# Altium schematic symbol library TC264.SchLib: 64 symbols (part 2 of 2)
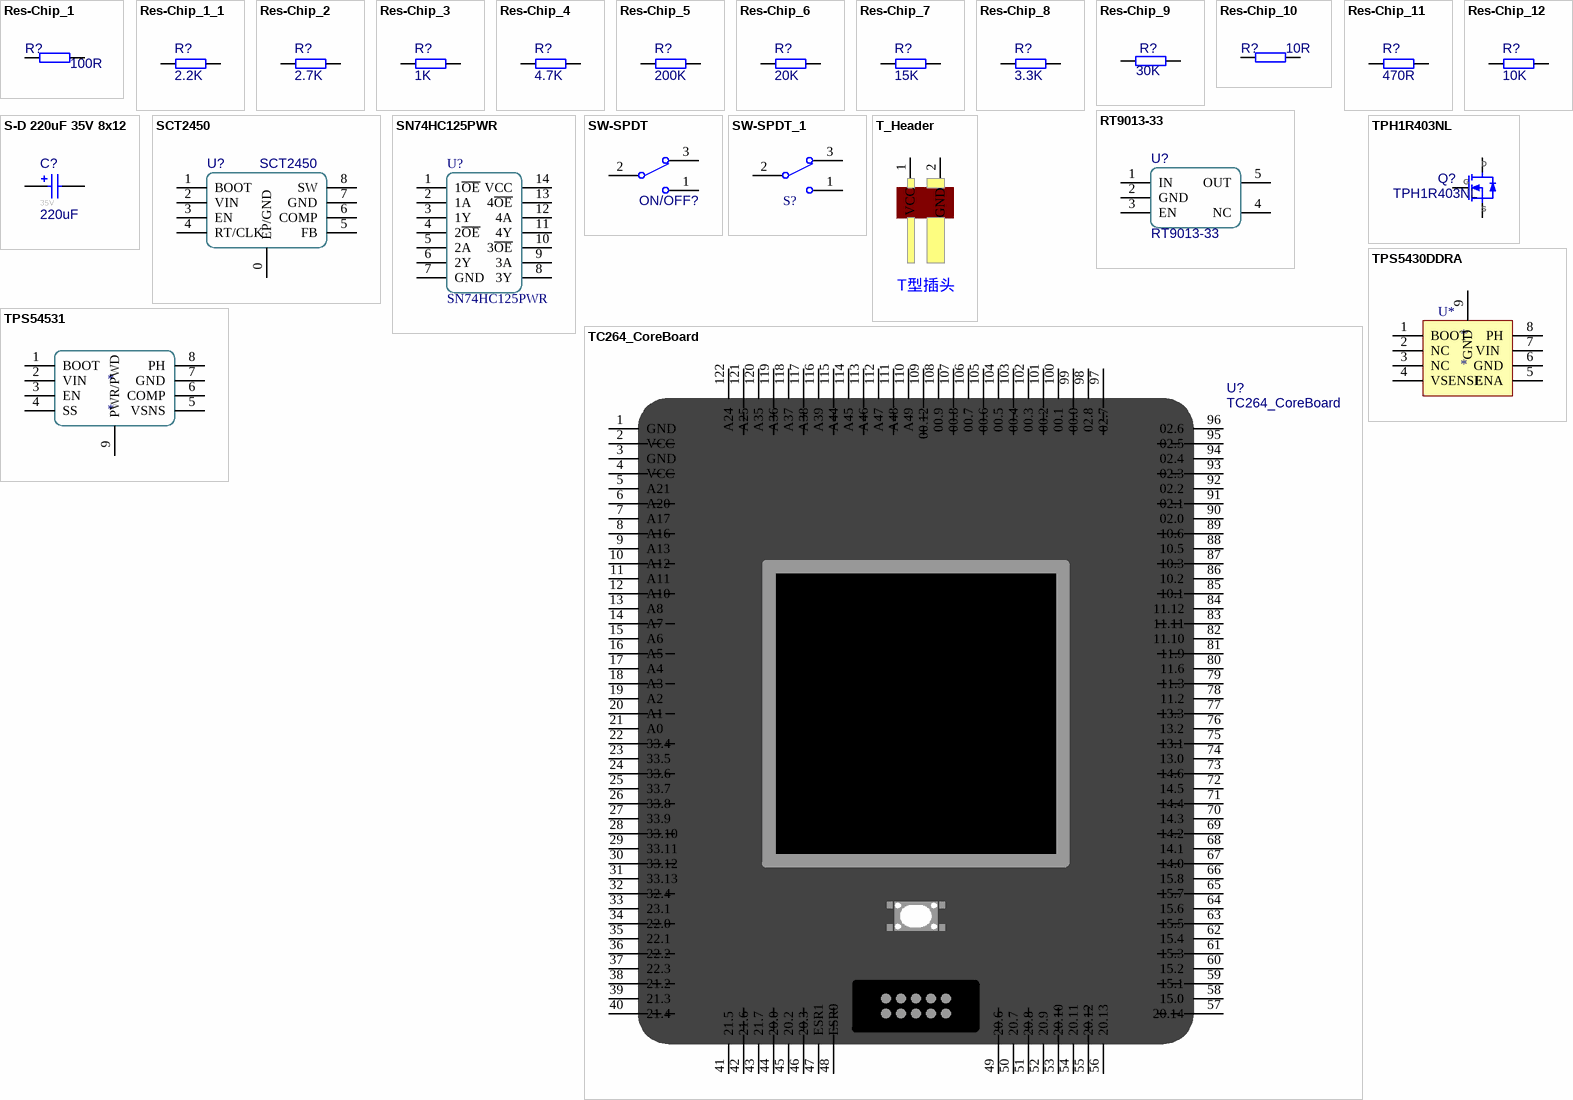
[diagram p2: symbols Res-Chip_1 to TPS54531]

## Res-Chip_9
designator R?, comment value 30K  (hidden comment: 30K ±1%)
贴片电阻; Published: 8-Jun-2000; Revision: July-2002: Re-released for DXP Platform.; Tolerance: ±1%
footprint RESC3225[1210]S (Silkscreen Outside, Chip Resistor, 2-Leads, Body 3.20x2.49mm, IPC Medium Density)
footprint RESC5025[2010]S (Silkscreen Outside, Chip Resistor, 2-Leads, Body 5.00x2.50mm, IPC Medium Density)
footprint RESC6332[2512]S (2512贴片电阻 有丝印 2脚 6.30x3.20mm IPC中密度)
footprint RESC5025[2010] (Chip Resistor, 2-Leads, Body 5.00x2.50mm, IPC Medium Density)
footprint RESC6332[2512] (2512贴片电阻 无丝印 2脚 6.30x3.20mm IPC中密度)
footprint RESC3225[1210] (Chip Resistor, 2-Leads, Body 3.20x2.49mm, IPC Medium Density)
footprint RESC3216[1206] (1206贴片电阻 无丝印 2脚 3.20x1.60mm IPC高密度)
footprint RESC2012[0805] (0805贴片电阻 无丝印 2脚 2.00x1.20mm IPC高密度)
footprint RESC1608[0603]-M (0603贴片电阻 无丝印 2脚 1.60x0.80mm IPC低密度)
footprint RESC1608[0603]-L (0603贴片电阻 无丝印 2脚 1.60x0.80mm IPC高密度)
footprint RESC1608[0603]-N (0603贴片电阻 无丝印 2脚 1.60x0.80mm IPC中密度)
footprint RESC1608[0603]S-L (0603贴片电阻 有丝印 2脚 1.60x0.80mm IPC高密度)
footprint RESC1608[0603]S-M (0603贴片电阻 有丝印 2脚 1.60x0.80mm IPC低密度)
footprint RESC1608[0603]S-N (0603贴片电阻 有丝印 2脚 1.60x0.80mm IPC中密度)
footprint RESC1005[0402]-L (0402贴片电阻 无丝印 2脚 1.00x0.50mm IPC高密度)
footprint RESC1005[0402]-N (0402贴片电阻 无丝印 2脚 1.00x0.50mm IPC中密度)
footprint RESC1005[0402]-M (0402贴片电阻 无丝印 2脚 1.00x0.50mm IPC低密度)
footprint RESC1005[0402]S-L (0402贴片电阻 有丝印 2脚 1.00x0.50mm IPC高密度)
footprint RESC1005[0402]S-M (0402贴片电阻 有丝印 2脚 1.00x0.50mm IPC低密度)
footprint RESC1005[0402]S-N (0402贴片电阻 有丝印 2脚 1.00x0.50mm IPC中密度)
footprint RESC2012[0805]S-L (0805贴片电阻 有丝印 2脚 2.00x1.20mm IPC高密度)
footprint RESC2012[0805]S-M (0805贴片电阻 有丝印 2脚 2.00x1.20mm IPC低密度)
footprint RESC2012[0805]S-N (0805贴片电阻 有丝印 2脚 2.00x1.20mm IPC中密度)
footprint RESC3216[1206]S-L (1206贴片电阻 有丝印 2脚 3.20x1.60mm IPC高密度)
footprint RESC3216[1206]S-M (1206贴片电阻 有丝印 2脚 3.20x1.60mm IPC低密度)
footprint RESC3216[1206]S-N (1206贴片电阻 有丝印 2脚 3.20x1.60mm IPC中密度)
footprint RESC0603[0201]-L (0201贴片电阻 无丝印 2脚 0.60x0.30mm IPC高密度)
footprint RESC0603[0201]-M (0201贴片电阻 无丝印 2脚 0.60x0.30mm IPC低密度)
footprint RESC0603[0201]-N (0201贴片电阻 无丝印 2脚 0.60x0.30mm IPC中密度)
footprint RESC0603[0201]S-L (0201贴片电阻 有丝印 2脚 0.60x0.30mm IPC高密度)
footprint RESC0603[0201]S-M (0201贴片电阻 有丝印 2脚 0.60x0.30mm IPC低密度)
footprint RESC0603[0201]S-N (0201贴片电阻 有丝印 2脚 0.60x0.30mm IPC中密度)
pins: 1, 2
1 alternate drawing of the same symbol

## Res-Chip_10
designator R?, comment value 10R  (hidden comment: 10R ±1%)
贴片电阻; Published: 8-Jun-2000; Revision: July-2002: Re-released for DXP Platform.; Tolerance: ±1%
footprint RESC3225[1210]S (Silkscreen Outside, Chip Resistor, 2-Leads, Body 3.20x2.49mm, IPC Medium Density)
footprint RESC5025[2010]S (Silkscreen Outside, Chip Resistor, 2-Leads, Body 5.00x2.50mm, IPC Medium Density)
footprint RESC6332[2512]S (2512贴片电阻 有丝印 2脚 6.30x3.20mm IPC中密度)
footprint RESC5025[2010] (Chip Resistor, 2-Leads, Body 5.00x2.50mm, IPC Medium Density)
footprint RESC6332[2512] (2512贴片电阻 无丝印 2脚 6.30x3.20mm IPC中密度)
footprint RESC3225[1210] (Chip Resistor, 2-Leads, Body 3.20x2.49mm, IPC Medium Density)
footprint RESC3216[1206] (1206贴片电阻 无丝印 2脚 3.20x1.60mm IPC高密度)
footprint RESC2012[0805] (0805贴片电阻 无丝印 2脚 2.00x1.20mm IPC高密度)
footprint RESC1608[0603]-M (0603贴片电阻 无丝印 2脚 1.60x0.80mm IPC低密度)
footprint RESC1608[0603]-L (0603贴片电阻 无丝印 2脚 1.60x0.80mm IPC高密度)
footprint RESC1608[0603]-N (0603贴片电阻 无丝印 2脚 1.60x0.80mm IPC中密度)
footprint RESC1608[0603]S-L (0603贴片电阻 有丝印 2脚 1.60x0.80mm IPC高密度)
footprint RESC1608[0603]S-M (0603贴片电阻 有丝印 2脚 1.60x0.80mm IPC低密度)
footprint RESC1608[0603]S-N (0603贴片电阻 有丝印 2脚 1.60x0.80mm IPC中密度)
footprint RESC1005[0402]-L (0402贴片电阻 无丝印 2脚 1.00x0.50mm IPC高密度)
footprint RESC1005[0402]-N (0402贴片电阻 无丝印 2脚 1.00x0.50mm IPC中密度)
footprint RESC1005[0402]-M (0402贴片电阻 无丝印 2脚 1.00x0.50mm IPC低密度)
footprint RESC1005[0402]S-L (0402贴片电阻 有丝印 2脚 1.00x0.50mm IPC高密度)
footprint RESC1005[0402]S-M (0402贴片电阻 有丝印 2脚 1.00x0.50mm IPC低密度)
footprint RESC1005[0402]S-N (0402贴片电阻 有丝印 2脚 1.00x0.50mm IPC中密度)
footprint RESC2012[0805]S-L (0805贴片电阻 有丝印 2脚 2.00x1.20mm IPC高密度)
footprint RESC2012[0805]S-M (0805贴片电阻 有丝印 2脚 2.00x1.20mm IPC低密度)
footprint RESC2012[0805]S-N (0805贴片电阻 有丝印 2脚 2.00x1.20mm IPC中密度)
footprint RESC3216[1206]S-L (1206贴片电阻 有丝印 2脚 3.20x1.60mm IPC高密度)
footprint RESC3216[1206]S-M (1206贴片电阻 有丝印 2脚 3.20x1.60mm IPC低密度)
footprint RESC3216[1206]S-N (1206贴片电阻 有丝印 2脚 3.20x1.60mm IPC中密度)
footprint RESC0603[0201]-L (0201贴片电阻 无丝印 2脚 0.60x0.30mm IPC高密度)
footprint RESC0603[0201]-M (0201贴片电阻 无丝印 2脚 0.60x0.30mm IPC低密度)
footprint RESC0603[0201]-N (0201贴片电阻 无丝印 2脚 0.60x0.30mm IPC中密度)
footprint RESC0603[0201]S-L (0201贴片电阻 有丝印 2脚 0.60x0.30mm IPC高密度)
footprint RESC0603[0201]S-M (0201贴片电阻 有丝印 2脚 0.60x0.30mm IPC低密度)
footprint RESC0603[0201]S-N (0201贴片电阻 有丝印 2脚 0.60x0.30mm IPC中密度)
pins: 1, 2
1 alternate drawing of the same symbol

## Res-Chip_11
designator R?, comment value 470R  (hidden comment: 470R ±1%)
贴片电阻; Published: 8-Jun-2000; Revision: July-2002: Re-released for DXP Platform.; Tolerance: ±1%
footprint RESC3225[1210]S (Silkscreen Outside, Chip Resistor, 2-Leads, Body 3.20x2.49mm, IPC Medium Density)
footprint RESC5025[2010]S (Silkscreen Outside, Chip Resistor, 2-Leads, Body 5.00x2.50mm, IPC Medium Density)
footprint RESC6332[2512]S (2512贴片电阻 有丝印 2脚 6.30x3.20mm IPC中密度)
footprint RESC5025[2010] (Chip Resistor, 2-Leads, Body 5.00x2.50mm, IPC Medium Density)
footprint RESC6332[2512] (2512贴片电阻 无丝印 2脚 6.30x3.20mm IPC中密度)
footprint RESC3225[1210] (Chip Resistor, 2-Leads, Body 3.20x2.49mm, IPC Medium Density)
footprint RESC3216[1206] (1206贴片电阻 无丝印 2脚 3.20x1.60mm IPC高密度)
footprint RESC2012[0805] (0805贴片电阻 无丝印 2脚 2.00x1.20mm IPC高密度)
footprint RESC1608[0603]-M (0603贴片电阻 无丝印 2脚 1.60x0.80mm IPC低密度)
footprint RESC1608[0603]-L (0603贴片电阻 无丝印 2脚 1.60x0.80mm IPC高密度)
footprint RESC1608[0603]-N (0603贴片电阻 无丝印 2脚 1.60x0.80mm IPC中密度)
footprint RESC1608[0603]S-L (0603贴片电阻 有丝印 2脚 1.60x0.80mm IPC高密度)
footprint RESC1608[0603]S-M (0603贴片电阻 有丝印 2脚 1.60x0.80mm IPC低密度)
footprint RESC1608[0603]S-N (0603贴片电阻 有丝印 2脚 1.60x0.80mm IPC中密度)
footprint RESC1005[0402]-L (0402贴片电阻 无丝印 2脚 1.00x0.50mm IPC高密度)
footprint RESC1005[0402]-N (0402贴片电阻 无丝印 2脚 1.00x0.50mm IPC中密度)
footprint RESC1005[0402]-M (0402贴片电阻 无丝印 2脚 1.00x0.50mm IPC低密度)
footprint RESC1005[0402]S-L (0402贴片电阻 有丝印 2脚 1.00x0.50mm IPC高密度)
footprint RESC1005[0402]S-M (0402贴片电阻 有丝印 2脚 1.00x0.50mm IPC低密度)
footprint RESC1005[0402]S-N (0402贴片电阻 有丝印 2脚 1.00x0.50mm IPC中密度)
footprint RESC2012[0805]S-L (0805贴片电阻 有丝印 2脚 2.00x1.20mm IPC高密度)
footprint RESC2012[0805]S-M (0805贴片电阻 有丝印 2脚 2.00x1.20mm IPC低密度)
footprint RESC2012[0805]S-N (0805贴片电阻 有丝印 2脚 2.00x1.20mm IPC中密度)
footprint RESC3216[1206]S-L (1206贴片电阻 有丝印 2脚 3.20x1.60mm IPC高密度)
footprint RESC3216[1206]S-M (1206贴片电阻 有丝印 2脚 3.20x1.60mm IPC低密度)
footprint RESC3216[1206]S-N (1206贴片电阻 有丝印 2脚 3.20x1.60mm IPC中密度)
footprint RESC0603[0201]-L (0201贴片电阻 无丝印 2脚 0.60x0.30mm IPC高密度)
footprint RESC0603[0201]-M (0201贴片电阻 无丝印 2脚 0.60x0.30mm IPC低密度)
footprint RESC0603[0201]-N (0201贴片电阻 无丝印 2脚 0.60x0.30mm IPC中密度)
footprint RESC0603[0201]S-L (0201贴片电阻 有丝印 2脚 0.60x0.30mm IPC高密度)
footprint RESC0603[0201]S-M (0201贴片电阻 有丝印 2脚 0.60x0.30mm IPC低密度)
footprint RESC0603[0201]S-N (0201贴片电阻 有丝印 2脚 0.60x0.30mm IPC中密度)
pins: 1, 2
1 alternate drawing of the same symbol

## Res-Chip_12
designator R?, comment value 10K  (hidden comment: 10K ±1%)
贴片电阻; Revision: V1.0; Tolerance: ±1%
footprint RESC0603[0201]-L (0201贴片电阻 无丝印 2脚 0.60x0.30mm IPC高密度)
footprint RESC0603[0201]-M (0201贴片电阻 无丝印 2脚 0.60x0.30mm IPC低密度)
footprint RESC0603[0201]-N (0201贴片电阻 无丝印 2脚 0.60x0.30mm IPC中密度)
footprint RESC0603[0201]S-L (0201贴片电阻 有丝印 2脚 0.60x0.30mm IPC高密度)
footprint RESC0603[0201]S-M (0201贴片电阻 有丝印 2脚 0.60x0.30mm IPC低密度)
footprint RESC0603[0201]S-N (0201贴片电阻 有丝印 2脚 0.60x0.30mm IPC中密度)
footprint RESC1005[0402]-L (0402贴片电阻 无丝印 2脚 1.00x0.50mm IPC高密度)
footprint RESC1005[0402]-M (0402贴片电阻 无丝印 2脚 1.00x0.50mm IPC低密度)
footprint RESC1005[0402]-N (0402贴片电阻 无丝印 2脚 1.00x0.50mm IPC中密度)
footprint RESC1005[0402]S-L (0402贴片电阻 有丝印 2脚 1.00x0.50mm IPC高密度)
footprint RESC1005[0402]S-M (0402贴片电阻 有丝印 2脚 1.00x0.50mm IPC低密度)
footprint RESC1005[0402]S-N (0402贴片电阻 有丝印 2脚 1.00x0.50mm IPC中密度)
footprint RESC1608[0603]-L (0603贴片电阻 无丝印 2脚 1.60x0.80mm IPC高密度)
footprint RESC1608[0603]-M (0603贴片电阻 无丝印 2脚 1.60x0.80mm IPC低密度)
footprint RESC1608[0603]-N (0603贴片电阻 无丝印 2脚 1.60x0.80mm IPC中密度)
footprint RESC1608[0603]S-L (0603贴片电阻 有丝印 2脚 1.60x0.80mm IPC高密度)
footprint RESC1608[0603]S-M (0603贴片电阻 有丝印 2脚 1.60x0.80mm IPC低密度)
footprint RESC1608[0603]S-N (0603贴片电阻 有丝印 2脚 1.60x0.80mm IPC中密度)
footprint RESC2012[0805] (0805贴片电阻 无丝印 2脚 2.00x1.20mm IPC高密度)
footprint RESC2012[0805]S-L (0805贴片电阻 有丝印 2脚 2.00x1.20mm IPC高密度)
footprint RESC2012[0805]S-M (0805贴片电阻 有丝印 2脚 2.00x1.20mm IPC低密度)
footprint RESC2012[0805]S-N (0805贴片电阻 有丝印 2脚 2.00x1.20mm IPC中密度)
footprint RESC3216[1206] (1206贴片电阻 无丝印 2脚 3.20x1.60mm IPC高密度)
footprint RESC3216[1206]S-L (1206贴片电阻 有丝印 2脚 3.20x1.60mm IPC高密度)
footprint RESC3216[1206]S-M (1206贴片电阻 有丝印 2脚 3.20x1.60mm IPC低密度)
footprint RESC3216[1206]S-N (1206贴片电阻 有丝印 2脚 3.20x1.60mm IPC中密度)
footprint RESC3225[1210] (Chip Resistor, 2-Leads, Body 3.20x2.49mm, IPC Medium Density)
footprint RESC3225[1210]S (Silkscreen Outside, Chip Resistor, 2-Leads, Body 3.20x2.49mm, IPC Medium Density)
footprint RESC5025[2010] (Chip Resistor, 2-Leads, Body 5.00x2.50mm, IPC Medium Density)
footprint RESC5025[2010]S (Silkscreen Outside, Chip Resistor, 2-Leads, Body 5.00x2.50mm, IPC Medium Density)
footprint RESC6332[2512] (2512贴片电阻 无丝印 2脚 6.30x3.20mm IPC中密度)
footprint RESC6332[2512]S (2512贴片电阻 有丝印 2脚 6.30x3.20mm IPC中密度)
pins: 1, 2

## RT9013-33
designator U?
3.3V 500mA SOT-23-5 LDO
footprint SOT-23-5 (SOT23, 5-Leads, Body 2.92x2.79mm, Pitch 0.95mm, IPC Medium Density)
pins: 1 IN, 2 GND, 3 EN, 4 NC, 5 OUT

## S-D 220uF 35V 8x12
designator C?, comment value 220uF  Voltage: 35V  (hidden comment: 220uF 35V 聚合物固态)
直插固态电容 220uF 35V 8x12; Revision: V1.0; Type: 聚合物固态
footprint Cap-S-D 3.5-8x11.5 (固态直插 3.5mm间距 8x11.5mm)
pins: 1, 2

## SCT2450
designator U?
3.8V-36V Vin, 5A, High Efficiency Synchronous Step-down DCDC Converter / with Programmable Frequency
footprint SOP-8E (SOIC,1.27mm pitch;8 pin,3.90mm W X 4.88mm L X 1.73mm H body)
pins: 0 EP/GND, 1 BOOT, 2 VIN, 3 EN, 4 RT/CLK, 5 FB, 6 COMP, 7 GND, 8 SW

## SN74HC125PWR
designator U?
三态输出的四路缓冲器 TSSOP-20
footprint TSSOP-14 (TSSOP 14pin 0.65mm间距)
pins: 1 1~{OE}, 2 1A, 3 1Y, 4 2~{OE}, 5 2A, 6 2Y, 7 GND, 8 3Y, 9 3A, 10 3~{OE}, 11 4Y, 12 4A, 13 4~{OE}, 14 VCC

## SW-SPDT
designator ON/OFF?  (value not drawn)
单刀双掷开关 3脚船型、钮子、拨动开关 SPDT Subminiature Toggle Switch; Published: 24-Mar-1999; Publisher: Altium Limited; Price(RMB): 0.000
footprint ToggleSwitch 7102
footprint SS12D06 (拨动开关，弯脚，脚距4.8)
footprint SS12D10 (拨动开关 直脚 脚距4.8)
footprint SS12D07VG4
footprint MSK-12C02 (MSK-12C02 侧贴2档7脚开关 带定位柱)
pins: 1, 2, 3

## SW-SPDT_1
designator S?, comment SW-SPDT  (value not drawn)
单刀双掷开关 3脚船型、钮子、拨动开关 SPDT Subminiature Toggle Switch; Published: 24-Mar-1999; Publisher: Altium Limited; Price(RMB): 0.000
footprint ToggleSwitch 7102
footprint SS12D06 (拨动开关，弯脚，脚距4.8)
footprint SS12D10 (拨动开关 直脚 脚距4.8)
footprint SS12D07VG4
footprint MSK-12C02 (MSK-12C02 侧贴2档7脚开关 带定位柱)
pins: 1, 2, 3

## T_Header
designator DCIN?, comment T型插头
footprint T_DC
footprint Wired T-Header (带线T头贴片焊盘)
footprint Wired T-Header ThroughHole (带线T头直插焊盘)
pins: 1 VCC, 2 GND

## TC264_CoreBoard
designator U?
逐飞科技TC264核心板
footprint TC264_CoreBoard (逐飞科技TC264核心板)
pins: 1 GND, 2 VCC, 3 GND, 4 VCC, 5 A21, 6 A20, 7 A17, 8 A16, 9 A13, 10 A12, 11 A11, 12 A10, 13 A8, 14 A7, 15 A6, 16 A5, 17 A4, 18 A3, 19 A2, 20 A1, 21 A0, 22 33.4, 23 33.5, 24 33.6, 25 33.7, 26 33.8, 27 33.9, 28 33.10, 29 33.11, 30 33.12, 31 33.13, 32 32.4, 33 23.1, 34 22.0, 35 22.1, 36 22.2, 37 22.3, 38 21.2, 39 21.3, 40 21.4, 41 21.5, 42 21.6, 43 21.7, 44 20.0, 45 20.2, 46 20.3, 47 ESR1, 48 ESR0, 49 20.6, 50 20.7, 51 20.8, 52 20.9, 53 20.10, 54 20.11, 55 20.12, 56 20.13, 57 20.14, 58 15.0, 59 15.1, 60 15.2, 61 15.3, 62 15.4, 63 15.5, 64 15.6, 65 15.7, 66 15.8, 67 14.0, 68 14.1, 69 14.2, 70 14.3, 71 14.4, 72 14.5, 73 14.6, 74 13.0, 75 13.1, 76 13.2, 77 13.3, 78 11.2, 79 11.3, 80 11.6, 81 11.9, 82 11.10, 83 11.11, 84 11.12, 85 10.1, 86 10.2, 87 10.3, 88 10.5, 89 10.6, 90 02.0, 91 02.1, 92 02.2, 93 02.3, 94 02.4, 95 02.5, 96 02.6, 97 02.7, 98 02.8, 99 00.0, 100 00.1, 101 00.2, 102 00.3, 103 00.4, 104 00.5, 105 00.6, 106 00.7, 107 00.8, 108 00.9, 109 00.12, 110 A49, 111 A48, 112 A47, 113 A46, 114 A45, 115 A44, 116 A39, 117 A38, 118 A37, 119 A36, 120 A35, 121 A25, 122 A24

## TPH1R403NL
designator Q?
东芝 N沟 MOS
footprint DFN5x6
pins: 1 D, 2 G, 3 S

## TPS5430DDRA
designator *
footprint SOP8-1R27-3R90
pins: 1 BOOT, 2 NC, 3 NC, 4 VSENSE, 5 ENA, 6 GND, 7 VIN , 8 PH, 9 GND
text: U*

## TPS54531
designator *
footprint SOP-8E (SOIC,1.27mm pitch;8 pin,3.90mm W X 4.88mm L X 1.73mm H body)
pins: 1 BOOT, 2 VIN, 3 EN, 4 SS, 5 VSNS, 6 COMP, 7 GND, 8 PH, 9 PWR/PWD